# EAGLE library part RICHTEK-RT3000CGQM (library geusebio)
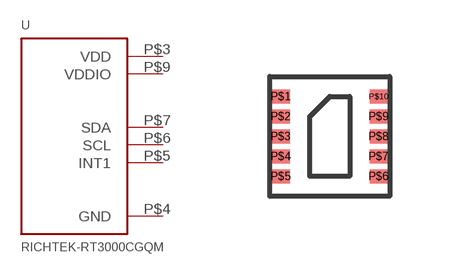
[diagram p11: symbol with the pads of MDFN-10L_3X3; footprint MDFN-10L_3X3]

Designator prefix -

## RICHTEK-RT3000CGQM  [MDFN-10L_3X3]
P$3  VDD
P$4  GND
P$5  INT1
P$6  SCL
P$7  SDA
P$9  VDDIO

## Footprint MDFN-10L_3X3 (pad centres in mm)
smd 0.45 x 0.35: P$1 -1.225,1; P$2 -1.225,0.5; P$3 -1.225,0; P$4 -1.225,-0.5; P$5 -1.225,-1; P$6 1.225,-1; P$7 1.225,-0.5; P$8 1.225,0; P$9 1.225,0.5; P$10 1.225,1